# EAGLE library part SGP41 (library otto)
Sensirion SGP30 multi-pixel gas sensor
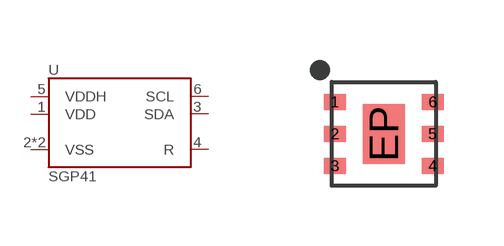
[diagram p8: symbol with the pads of SGP41; footprint SGP41]

Designator prefix -

## SGP41  [SGP41]
1  VDD
2  VSS
3  SDA
4  R
5  VDDH
6  SCL
EP  VSS

## Footprint SGP41 (pad centres in mm)
Sensirion SGP30 Multi-pixel gas sensor
smd 0.55 x 0.4: 1 -1.225,0.8; 2 -1.225,0; 3 -1.225,-0.8; 4 1.225,-0.8; 5 1.225,0; 6 1.225,0.8
smd 1.05 x 1.5: EP 0,0